# Altium schematic symbol library SparkFun-Sensors.SCHLIB: 134 symbols (part 2 of 2)
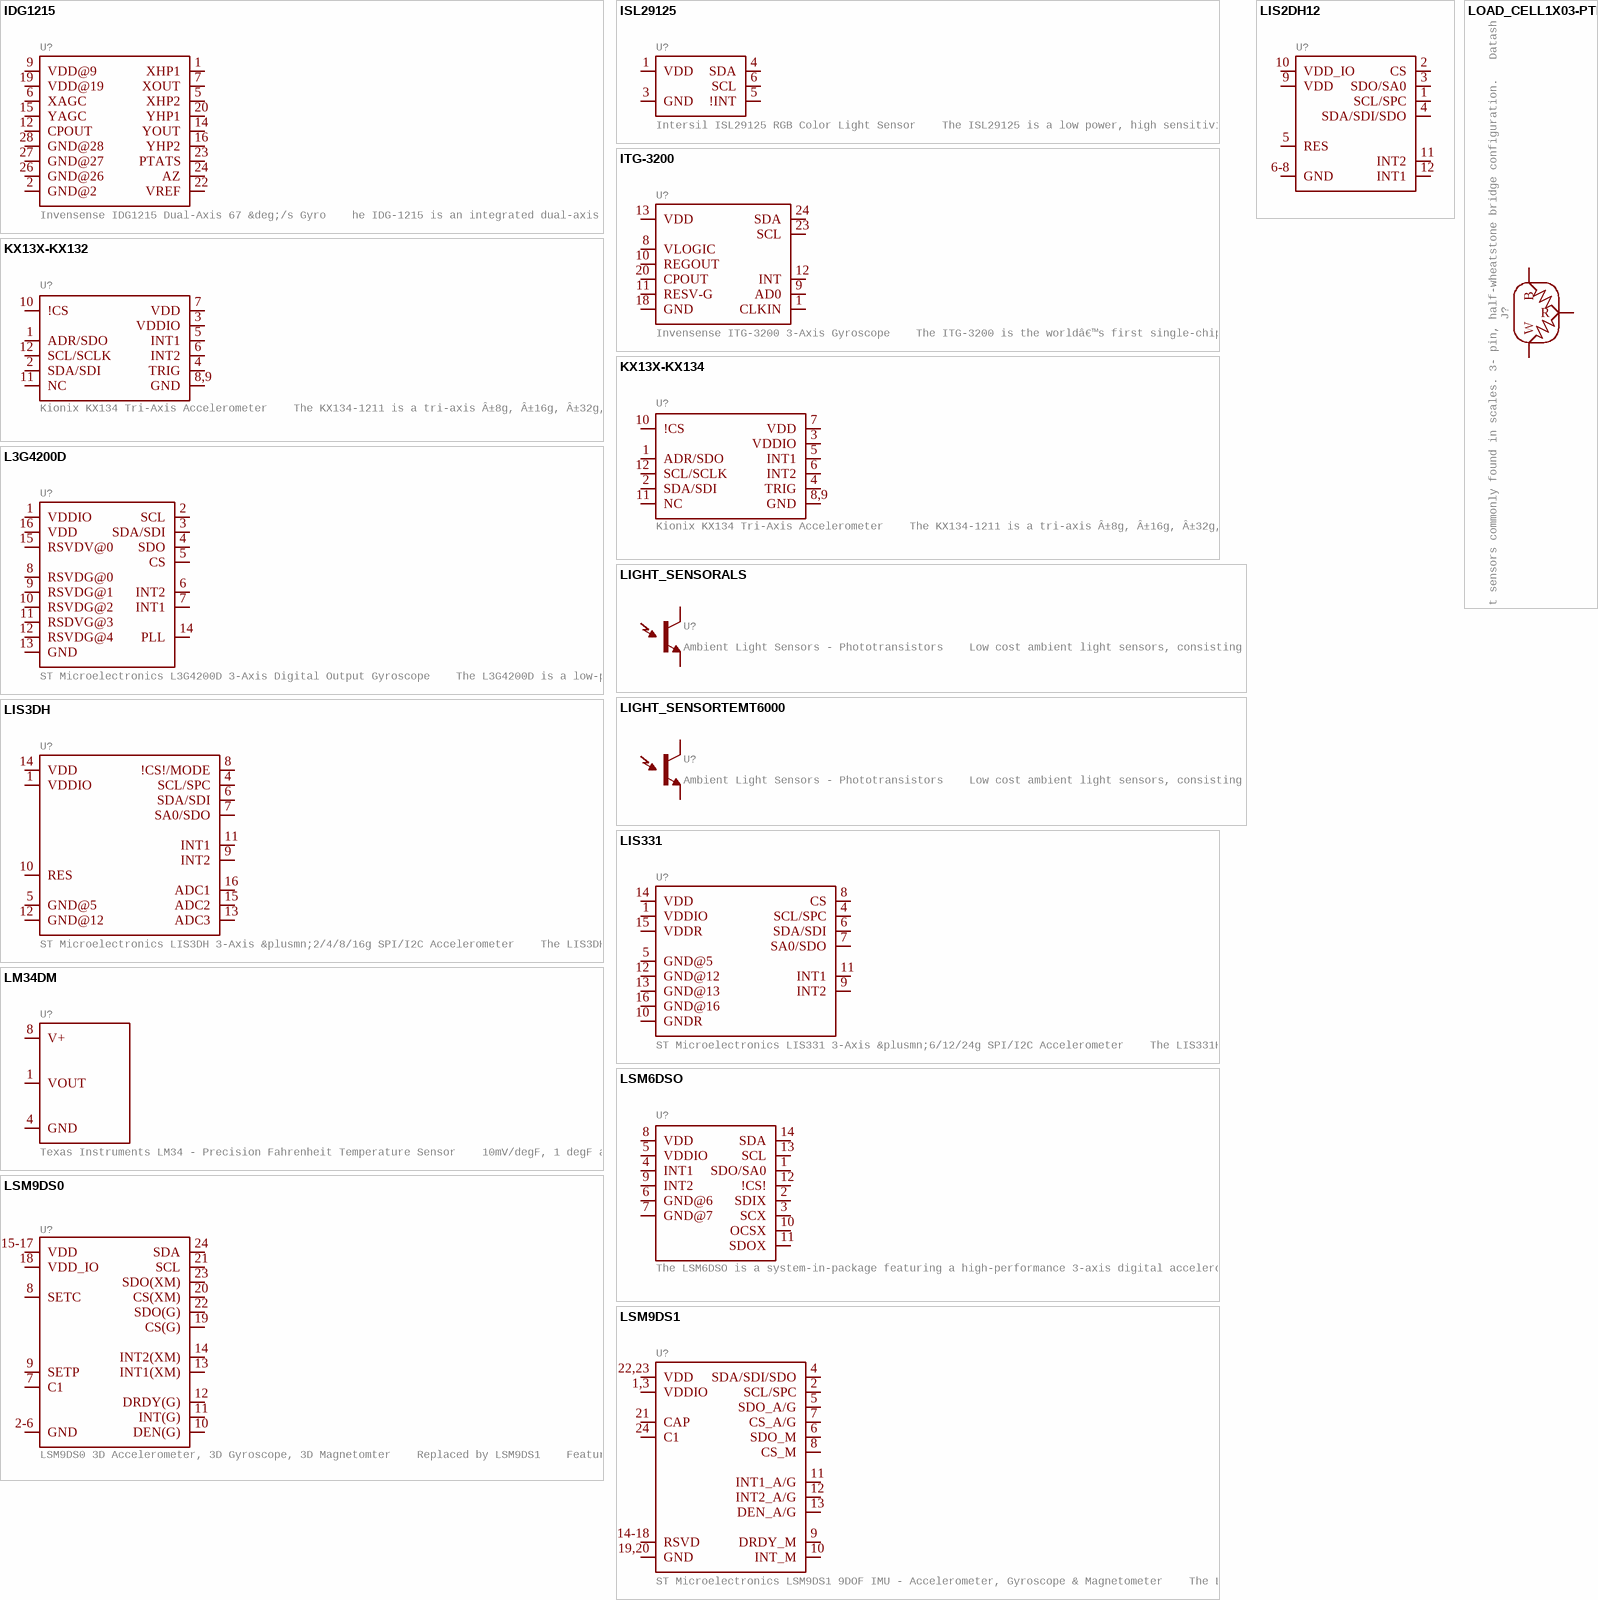
[diagram p8: symbols IDG1215 to LSM9DS1]

## LSM9DS1
designator U?, comment ST Microelectronics LSM9DS1 9DOF IMU - Accelerometer, Gyroscope & Magnetometer    The LSM9DS1 is a versatile, motion-sensing system-in-a-chip. It houses a 3-axis accelerometer, 3-axis gyroscope, and 3-axis magnetometer â€“ nine degrees of freedom (9DOF) in a single IC! The LSM9DS1 is equipped with a digital interface, but even that is flexible: it supports both I2C and SPI, so youâ€™ll be hard-pressed to find a microcontroller it doesnâ€™t work with.   Datasheet SparkFun Products  SparkFun 9 Degrees of Freedom IMU Breakout - LSM9DS1 (SEN-13284)  SparkFun Photon IMU Shield (DEV-13629)
GateName_1: G$1; PROD_ID: IC-12536; SymbolName_1: LSM9DS1; LibraryName: SparkFun-Sensors; DeviceSetName: LSM9DS1; Package: LGA-24-3.5X3
footprint LGA-24-3.5X3
pins: 1,3 VDDIO (io), 2 SCL/SPC (io), 4 SDA/SDI/SDO (io), 5 SDO_A/G (io), 6 SDO_M (io), 7 CS_A/G (io), 8 CS_M (io), 9 DRDY_M (io), 10 INT_M (io), 11 INT1_A/G (io), 12 INT2_A/G (io), 13 DEN_A/G (io), 14-18 RSVD (io), 19,20 GND (io), 21 CAP (io), 22,23 VDD (io), 24 C1 (io)

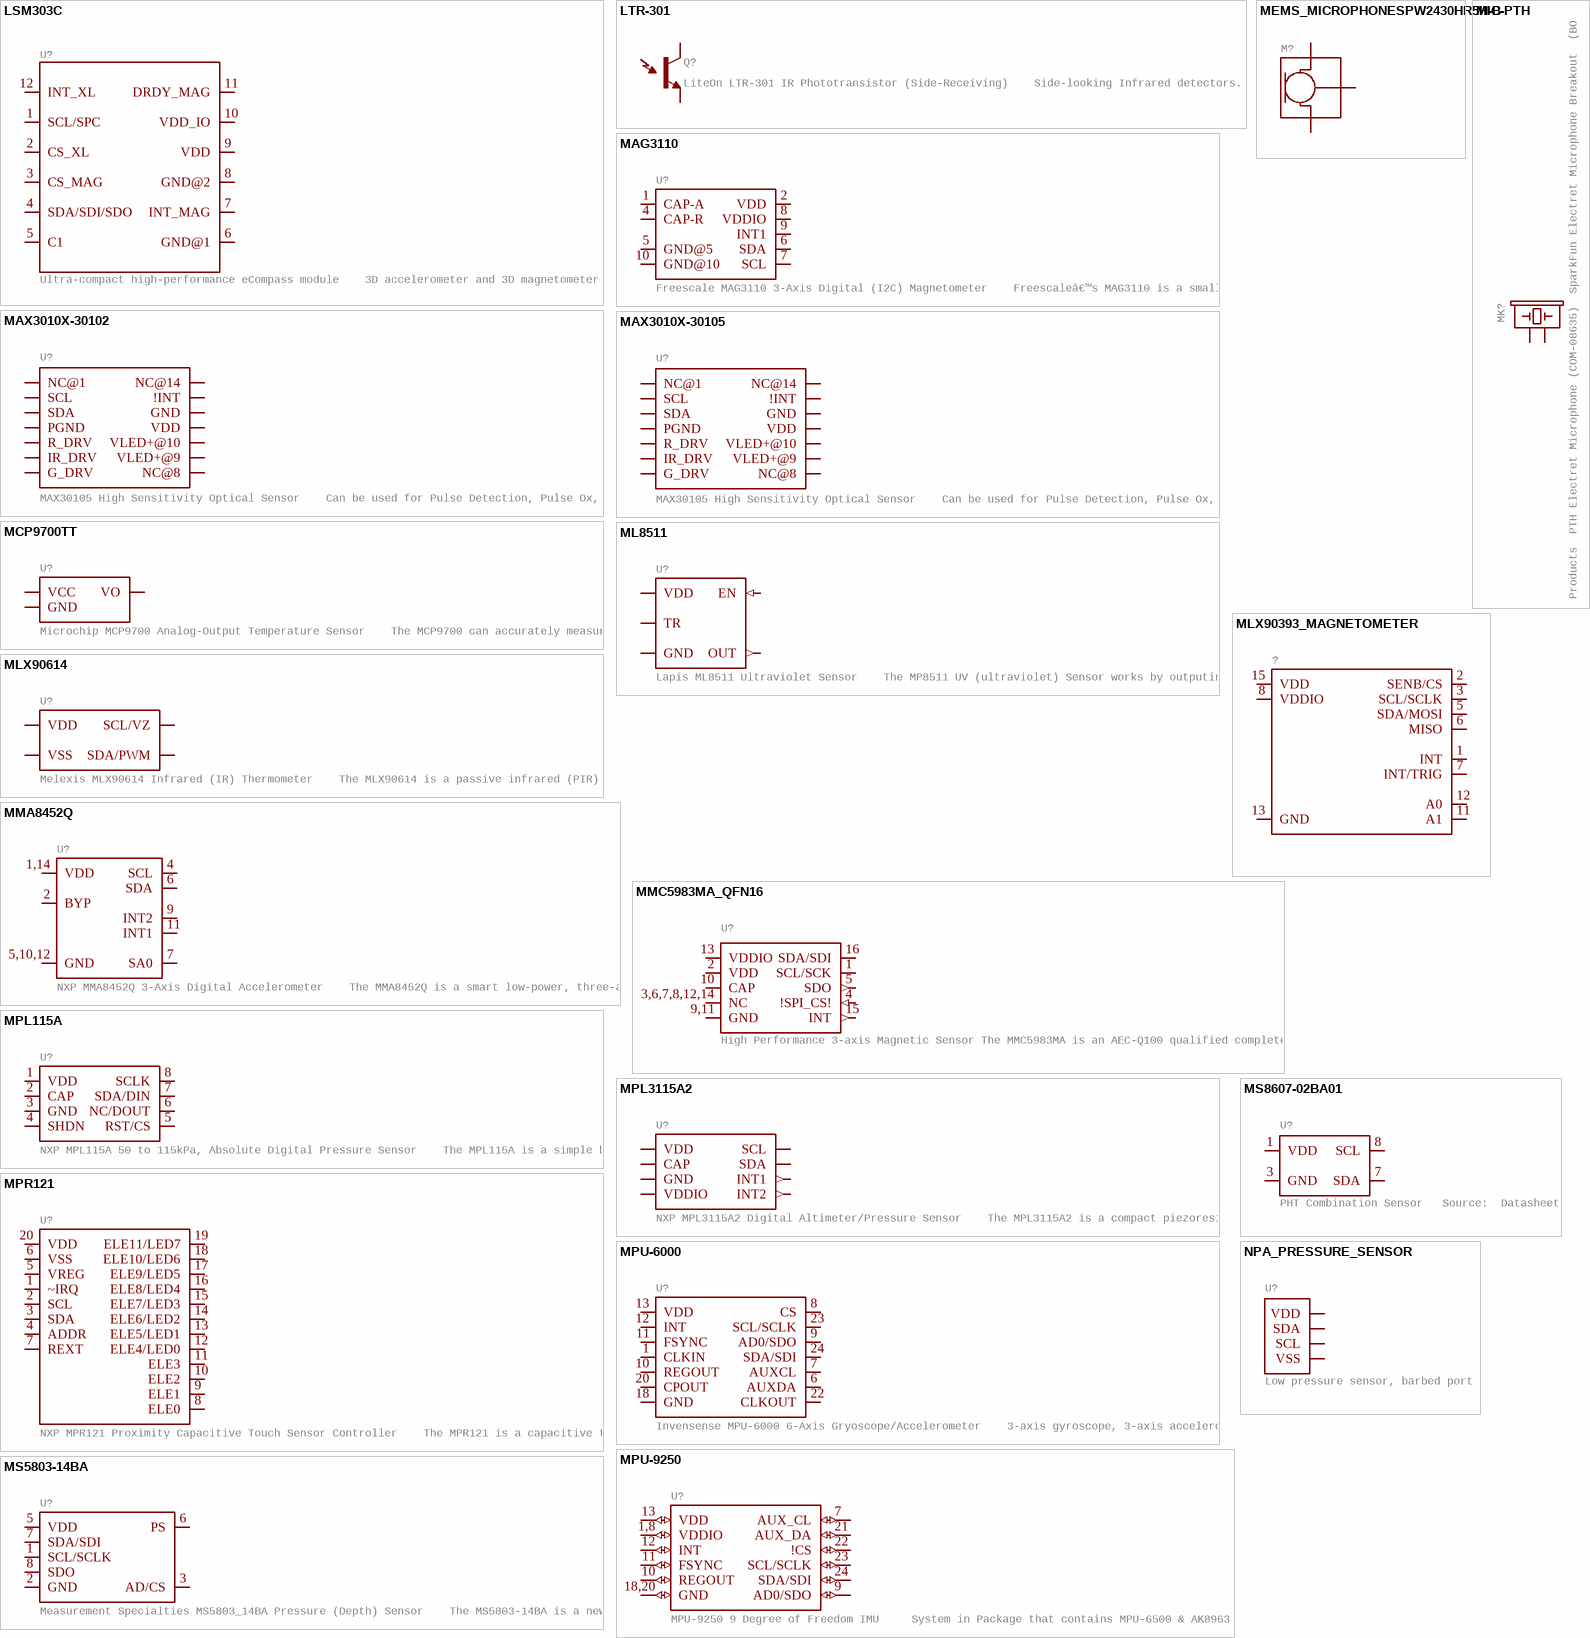
[diagram p4: symbols LSM303C to NPA_PRESSURE_SENSOR]

## LSM303C
designator U?, comment Ultra-compact high-performance eCompass module    3D accelerometer and 3D magnetometer      Datasheet SparkFun Products  SparkFun 6 Degrees of Freedom Breakout - LSM303C (BOB-13303)
GateName_1: G$1; PROD_ID: IC-12557; SymbolName_1: LSM303C; LibraryName: SparkFun-Sensors; DeviceSetName: LSM303C; Package: LGA-12
footprint LGA-12
pins: 1 SCL/SPC (io), 2 CS_XL (io), 3 CS_MAG (io), 4 SDA/SDI/SDO (io), 5 C1 (io), 6 GND@1 (io), 7 INT_MAG (io), 8 GND@2 (io), 9 VDD (io), 10 VDD_IO (io), 11 DRDY_MAG (io), 12 INT_XL (io)

## LTR-301
designator Q?, comment LiteOn LTR-301 IR Phototransistor (Side-Receiving)    Side-looking Infrared detectors. These simple devices operate at 940nm and work well for generic IR systems including remote control and touch-less object sensing. Using a simple ADC on any microcontroller will allow variable readings to be collected from the detector.   Datasheet SparkFun Products  Infrared Emitters and Detectors (SEN-00241)
GateName_1: G$1; SymbolName_1: LIGHTSENSOR; PROD_ID: DIO-10904; LibraryName: SparkFun-Sensors; DeviceSetName: LTR-301; Package: LTR-301; SF_ID: SEN-00241
footprint LTR-301
pins: C C1, E E1

## MAG3110
designator U?, comment Freescale MAG3110 3-Axis Digital (I2C) Magnetometer    Freescaleâ€™s MAG3110 is a small, low-power, digital 3-axis magnetometer. The device can be used in conjunction with a 3-axis accelerometer to produce orientation independent accurate compass heading information. It features a standard I2C serial interface output and smart embedded functions.   Datasheet SparkFun Products  SparkFun Triple Axis Magnetometer Breakout - MAG3110 (SEN-12670)
GateName_1: G$1; PROD_ID: IC-10404; SymbolName_1: MAG3110; LibraryName: SparkFun-Sensors; DeviceSetName: MAG3110; Package: DFN-10
footprint DFN-10
pins: 1 CAP-A (io), 2 VDD (io), 4 CAP-R (io), 5 GND@5 (io), 6 SDA (io), 7 SCL (io), 8 VDDIO (io), 9 INT1 (io), 10 GND@10 (io)

## MAX3010X-30102
designator U?, comment MAX30105 High Sensitivity Optical Sensor    Can be used for Pulse Detection, Pulse Ox, and possible visual particle detection. I2C communication.  Datasheet    SparkFun Products: SparkFun Particle Sensor Breakout - MAX30105
GateName_1: U1; DeviceName: -30102; DeviceSetName: MAX3010X; PROD_ID: IC-14316; SymbolName_1: MAX30105; LibraryName: SparkFun-Sensors; Package: OLGA-14
footprint OLGA-14
pins: 1 NC@1 (io), 2 SCL (io), 3 SDA (io), 4 PGND (io), 5 R_DRV (io), 6 IR_DRV (io), 7 G_DRV (io), 8 NC@8 (io), 9 VLED+@9 (io), 10 VLED+@10 (io), 11 VDD (io), 12 GND (io), 13 !INT (io), 14 NC@14 (io)

## MAX3010X-30105
designator U?, comment MAX30105 High Sensitivity Optical Sensor    Can be used for Pulse Detection, Pulse Ox, and possible visual particle detection. I2C communication.  Datasheet    SparkFun Products: SparkFun Particle Sensor Breakout - MAX30105
GateName_1: U1; DeviceName: -30105; DeviceSetName: MAX3010X; PROD_ID: IC-13510; SymbolName_1: MAX30105; LibraryName: SparkFun-Sensors; Package: OLGA-14
footprint OLGA-14
pins: 1 NC@1 (io), 2 SCL (io), 3 SDA (io), 4 PGND (io), 5 R_DRV (io), 6 IR_DRV (io), 7 G_DRV (io), 8 NC@8 (io), 9 VLED+@9 (io), 10 VLED+@10 (io), 11 VDD (io), 12 GND (io), 13 !INT (io), 14 NC@14 (io)

## MCP9700TT
designator U?, comment Microchip MCP9700 Analog-Output Temperature Sensor    The MCP9700 can accurately measure temperature from -40C to +150C. The output of the MCP9700 is calibrated to a slope of 10mV/Â°C and has a DC offset of 500mV. The offset allows reading negative temperatures without the need for a negative supply.    Datasheet SparkFun Products  LilyPad Temperature Sensor (DEV-08777)  SparkFun Digital Sandbox (DEV-12651)
GateName_1: G$1; DeviceName: TT; PROD_ID: IC-08917; SymbolName_1: MCP9700; LibraryName: SparkFun-Sensors; DeviceSetName: MCP9700; Package: SOT23-3
footprint SOT23-3
pins: 1 VCC (io), 2 VO (io), 3 GND (io)

## MEMS_MICROPHONESPW2430HR5H-B
designator M?
GateName_1: G$1; SymbolName_1: MEMS_MICROPHONE; DeviceName: SPW2430HR5H-B; PROD_ID: COMP-14230; LibraryName: SparkFun-Sensors; DeviceSetName: MEMS_MICROPHONE; Package: SPW2430HR5H-B; DIGIKEY: 423-1394-2-ND
footprint SPW2430HR5H-B
pins: 1 OUT (io), 2,3 GND (io), 4 VDD (io)

## MIC-PTH
designator MK?, comment Microphone    Omni-directional electret microphones - one through-hole, the other SMD.   Datasheet (through-hole mic)   Datasheet (SMD mic) SparkFun Products  PTH Electret Microphone (COM-08635)  SparkFun Electret Microphone Breakout  (BOB-09964)  Digital Sandbox (DEV-12651)  SparkFun Sound Detector (SEN-12642)     SMD Microphone SparkFun Voice Recorder Breakout - ISD1932 (BOB-10653)
GateName_1: >NAME; DeviceName: -PTH; PROD_ID: COMP-08856; SymbolName_1: MIC; LibraryName: SparkFun-Sensors; DeviceSetName: MIC; Package: MICROPHONE-PTH-9.7MM; SF_ID: COM-08635
footprint MICROPHONE-PTH-9.7MM
pins: GND 2, OUT 1

## ML8511
designator U?, comment Lapis ML8511 Ultraviolet Sensor    The MP8511 UV (ultraviolet) Sensor works by outputing an analog signal in relation to the amount of UV light thatâ€™s detected. This sensor detects 280-390nm light most effectively. This is categorized as part of the UVB (burning rays) spectrum and most of the UVA (tanning rays) spectrum. It outputs a analog voltage that is linearly related to the measured UV intensity (mW/cm2).   Datasheet SparkFun Products  SparkFun UV Sensor Breakout - ML8511  (SEN-12705)
GateName_1: U1; PROD_ID: IC-11927; SymbolName_1: ML8511; LibraryName: SparkFun-Sensors; DeviceSetName: ML8511; Package: ML8511
footprint ML8511
pins: 4 EN (in), 5 GND (power), 7 VDD (power), 8 OUT (out), 10 TR (power)

## MLX90393_MAGNETOMETER
designator ?
GateName_1: G$1; SymbolName_1: MLX90393_MAGNETOMETER; PROD_ID: SEN-13886; LibraryName: SparkFun-Sensors; DeviceSetName: MLX90393_MAGNETOMETER; Package: QFN-16_WITH_AXIES
footprint QFN-16_WITH_AXIES
pins: 1 INT (io), 2 SENB/CS (io), 3 SCL/SCLK (io), 5 SDA/MOSI (io), 6 MISO (io), 7 INT/TRIG (io), 8 VDDIO (io), 11 A1 (io), 12 A0 (io), 13 GND (io), 15 VDD (io)

## MLX90614
designator U?, comment Melexis MLX90614 Infrared (IR) Thermometer    The MLX90614 is a passive infrared (PIR) I2C temperature sensor.It is designed for non-contact temperature sensing. An internal 17-bit ADC and a powerful DSP contribute to the MLX90614â€™s high accuracy and resolution. It has a huge number of applications including body temperature measurment and movement detection.   Datasheet SparkFun Products  Infrared Thermometer - MLX90614 (SEN-09570)  SparkFun IR Thermometer Evaluation Board - MLX90614  (SEN-10740)
GateName_1: G$1; PROD_ID: COMP-09719; SymbolName_1: MLX90614; LibraryName: SparkFun-Sensors; DeviceSetName: MLX90614; Package: TO-39; SF_ID: SEN-09570
footprint TO-39
pins: 1 SCL/VZ (io), 2 SDA/PWM (io), 3 VDD (io), 4 VSS (io)

## MMA8452Q
designator U?, comment NXP MMA8452Q 3-Axis Digital Accelerometer    The MMA8452Q is a smart low-power, three-axis, capacitive MEMS accelerometer with 12 bits of resolution. This accelerometer is packed with embedded functions with flexible user programmable options, configurable to two interrupt pins.  Supply Voltage: 1.6-3.6V  Range: +/- 2g, 4g, 8g  Interface: I2C, 12-bit and 8-bit  ODR: 1.56 Hz - 800 Hz  Package: QFN-16       Datasheet SparkFun Products  SparkFun Triple Axis Accelerometer Breakout - MMA8452Q (SEN-12756)  SparkFun RedBot Sensor - Accelerometer (SEN-12589)
GateName_1: U1; PROD_ID: IC-10769; SymbolName_1: MMA8452Q; LibraryName: SparkFun-Sensors; DeviceSetName: MMA8452Q
footprint QFN-16
pins: 1,14 VDD (io), 2 BYP (io), 4 SCL (io), 5,10,12 GND (io), 6 SDA (io), 7 SA0 (io), 9 INT2 (io), 11 INT1 (io)

## MMC5983MA_QFN16
designator U?, comment High Performance 3-axis Magnetic Sensor The MMC5983MA is an AEC-Q100 qualified complete 3-axis magnetic sensor with on-chip signal processing and integrated I2C/SPI bus suitable for use in automotive applications. The device can be connected directly to a microprocessor, eliminating the need for A/D converters or timing resources. It can measure magnetic fields within the full scale range of Â±8 Gauss (G), with 0.25mG/0.0625mG per LSB resolution at 16bits/18bits operation mode and 0.4 mG total RMS noise level, enabling heading accuracy of Â±0.5Â° in electronic compass applications.
GateName_1: G$1; DeviceName: _QFN16; PROD_ID: IC-16314; SymbolName_1: MMC5983MA; LibraryName: SparkFun-Sensors; DeviceSetName: MMC5983MA; Package: LGA-16-3X3MM-4X4PINS
footprint LGA-16-3X3MM-4X4PINS
pins: 1 SCL/SCK (io), 2 VDD (power), 3,6,7,8,12,14 NC, 4 !SPI_CS! (in), 5 SDO (out), 9,11 GND (power), 10 CAP, 13 VDDIO (power), 15 INT (out), 16 SDA/SDI (io)

## MPL115A
designator U?, comment NXP MPL115A 50 to 115kPa, Absolute Digital Pressure Sensor    The MPL115A is a simple barometer with digital output for cost-effective applications. It employs a MEMS pressure sensor with a conditioning integrated circuit to provide accurate pressure data. An integrated analog-to-digital converter (ADC) provides digitized temperature and pressure sensor outputs via either a serial peripheral interface (SPI) (MPL115A1) or IÂ²C (MPL115A2) port.   Datasheet SparkFun Products  SparkFun Barometric Pressure Sensor Breakout - MPL115A1 (SEN-09721)  Barometric Pressure Sensor - MPL115A1 (SEN-09602)
GateName_1: G$1; PROD_ID: IC-09492; SymbolName_1: MPL115A; LibraryName: SparkFun-Sensors; DeviceSetName: MPL115A; Package: LGA-8-5X3; SF_ID: SEN-09602
footprint LGA-8-5X3
pins: 1 VDD (io), 2 CAP (io), 3 GND (io), 4 SHDN (io), 5 RST/CS (io), 6 NC/DOUT (io), 7 SDA/DIN (io), 8 SCLK (io)

## MPL3115A2
designator U?, comment NXP MPL3115A2 Digital Altimeter/Pressure Sensor    The MPL3115A2 is a compact piezoresistive absolute pressure sensor with an I2C interface. MPL3115 has a wide operating range of 20kPa to 110 kPa, a range that covers all surface elevations on Earth. The fully internally compensated MEMS in conjunction with an embedded high resolution 24-bit equivalent ADC provide accurate pressure [Pascals] /altitude [meters] and temperature [degrees Celsius] data.   Datasheet SparkFun Products  SparkFun Altitude/Pressure Sensor Breakout - MPL3115A2 (SEN-11084)  SparkFun Weather Shield (DEV-12081)  SparkFun Photon Weather Shield (DEV-13630)
GateName_1: G$1; PROD_ID: IC-10869; SymbolName_1: MPL3115A2; LibraryName: SparkFun-Sensors; DeviceSetName: MPL3115A2; Package: LGA-8-5X3
footprint LGA-8-5X3
pins: 1 VDD (power), 2 CAP (power), 3 GND (power), 4 VDDIO (power), 5 INT2 (out), 6 INT1 (out), 7 SDA (io), 8 SCL (io)

## MPR121
designator U?, comment NXP MPR121 Proximity Capacitive Touch Sensor Controller    The MPR121 is a capacitive touch sensor controller driven by an I2C interface. The chip can control up to twelve individual electrodes, as well as a simulated thirteenth electrode. The MPR121 also features eight LED driving pins. When these pins are not configured as electrodes, they may be used to drive LEDs.   Datasheet SparkFun Products  Capacitive Touch Sensor Controller - MPR121QR2 (COM-09604)  SparkFun Capacitive Touch Sensor Breakout - MPR121 (SEN-09695)  SparkFun Touch Shield (DEV-12013)  SparkFun Capacitive Touch Keypad - MPR121 (SEN-12017)
GateName_1: G$1; PROD_ID: IC-09490; SymbolName_1: MPR121; LibraryName: SparkFun-Sensors; DeviceSetName: MPR121; Package: QFN-20; SF_ID: COM-09604
footprint QFN-20
pins: 1 ~IRQ (io), 2 SCL (io), 3 SDA (io), 4 ADDR (io), 5 VREG (io), 6 VSS (io), 7 REXT (io), 8 ELE0 (io), 9 ELE1 (io), 10 ELE2 (io), 11 ELE3 (io), 12 ELE4/LED0 (io), 13 ELE5/LED1 (io), 14 ELE6/LED2 (io), 15 ELE7/LED3 (io), 16 ELE8/LED4 (io), 17 ELE9/LED5 (io), 18 ELE10/LED6 (io), 19 ELE11/LED7 (io), 20 VDD (io)

## MPU-6000
designator U?, comment Invensense MPU-6000 6-Axis Gryoscope/Accelerometer    3-axis gyroscope, 3-axis accelerometer in a 4x4 package. The MPU-6000 is the worldâ€™s first 6-axis IÂ²C MotionTracking device designed for the low power, low cost, and high performance requirements of smartphones, tablets and wearable sensors.   Datasheet SparkFun Products  MPU-6000 - Motion Processing Unit (SEN-11234)  SparkFun UDB5 - PIC UAV Development Board (GPS-11703)
GateName_1: G$1; PROD_ID: IC-11089; SymbolName_1: MPU-6000; LibraryName: SparkFun-Sensors; DeviceSetName: MPU-6000; Package: QFN-24-EP; SF_ID: SEN-11234
footprint QFN-24-EP
pins: 1 CLKIN (io), 6 AUXDA (io), 7 AUXCL (io), 8 CS (io), 9 AD0/SDO (io), 10 REGOUT (io), 11 FSYNC (io), 12 INT (io), 13 VDD (io), 18 GND (io), 20 CPOUT (io), 22 CLKOUT (io), 23 SCL/SCLK (io), 24 SDA/SDI (io)

## MPU-9250
designator U?, comment MPU-9250 9 Degree of Freedom IMU     System in Package that contains MPU-6500 & AK8963  NC pin 19. 2-6 & 14-17 not internally connected. May be used for PCB trace routing.  Datasheet   SparkFun Products: SparkFun 9DoF Razor IMU M0  SparkFun IMU Breakout - MPU-9250
GateName_1: G$1; PROD_ID: IC-13192; SymbolName_1: MPU-9250; LibraryName: SparkFun-Sensors; DeviceSetName: MPU-9250; Package: QFN24-3X3
footprint QFN24-3X3
pins: 1,8 VDDIO (io), 7 AUX_CL (io), 9 AD0/SDO (io), 10 REGOUT (io), 11 FSYNC (io), 12 INT (io), 13 VDD (io), 18,20 GND (io), 21 AUX_DA (io), 22 !CS (io), 23 SCL/SCLK (io), 24 SDA/SDI (io)

## MS5803-14BA
designator U?, comment Measurement Specialties MS5803_14BA Pressure (Depth) Sensor    The MS5803-14BA is a new generation of high resolution pressure sensors with SPI and I2C bus interface. It is optimized for depth measurement systems with a water depth resolution of 1cm and below. The sensor module includes a high linear pressure sensor and an ultra low power 24 bit Î”Î£ ADC with internal factory calibrated coefficients. It provides a precise digital 24 Bit pressure and temperature value and different operation modes that allow the user to optimize for conversion speed and current consumption.   Datasheet SparkFun Products  SparkFun Pressure Sensor Breakout - MS5803-14BA (SEN-12909)
GateName_1: G$1; SymbolName_1: MS5803; PROD_ID: IC-12111; LibraryName: SparkFun-Sensors; DeviceSetName: MS5803-14BA; Package: MS5803
footprint MS5803
pins: 1 SCL/SCLK (io), 2 GND (io), 3 AD/CS (io), 5 VDD (io), 6 PS (io), 7 SDA/SDI (io), 8 SDO (io)

## MS8607-02BA01
designator U?, comment PHT Combination Sensor   Source:  Datasheet
GateName_1: U1; SymbolName_1: MS8607-02BA01; PROD_ID: IC-15048; LibraryName: SparkFun-Sensors; DeviceSetName: MS8607-02BA01; Package: MS8607-02BA01
footprint MS8607-02BA01
pins: 1 VDD (power), 3 GND (power), 7 SDA (io), 8 SCL (io)

## NPA_PRESSURE_SENSOR
designator U?, comment Low pressure sensor, barbed port
GateName_1: G$1; SymbolName_1: NPA_PRESSURE_SENSOR; LibraryName: SparkFun-Sensors; DeviceSetName: NPA_PRESSURE_SENSOR; Package: SO14W
footprint SO14W
pins: 6 VSS (power), 7 VDD (power), 8 SDA (io), 9 SCL (io)

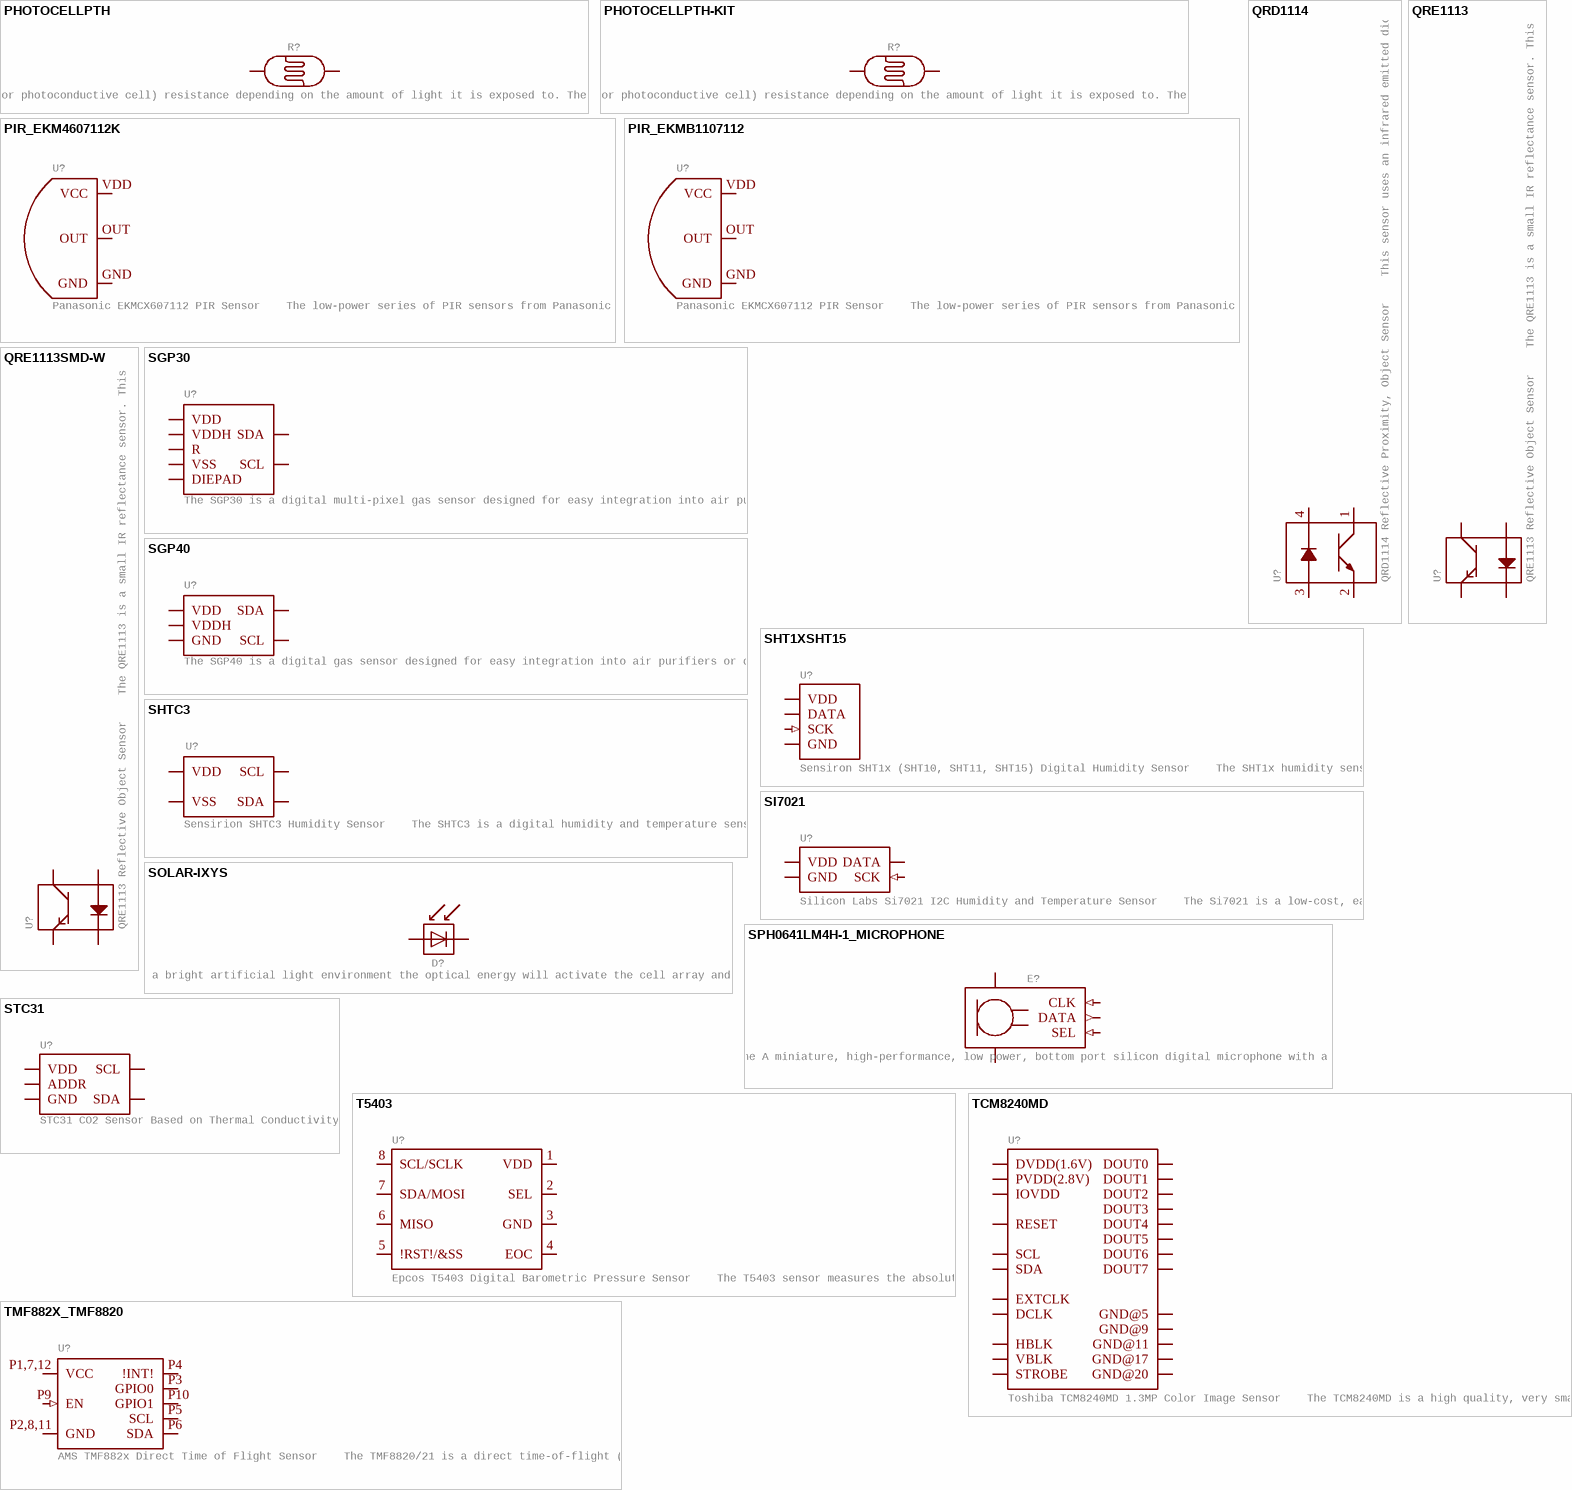
[diagram p5: symbols PHOTOCELLPTH to TMF882X_TMF8820]

## PHOTOCELLPTH
designator R?, comment Photocell (Photodetector, Photo Resistor, CdS)    This is a very small light sensor. A photocell changes (also called a photodetector, photo resistor, CdS or photoconductive cell) resistance depending on the amount of light it is exposed to. These little sensors make great ambient light triggers (when light in the room turns on, do something).   Datasheet SparkFun Products  Mini Photocell (SEN-09088)
GateName_1: G$1; DeviceName: PTH; PROD_ID: COMP-09129; SymbolName_1: PHOTOCELL; LibraryName: SparkFun-Sensors; DeviceSetName: PHOTOCELL; Package: PHOTOCELL; SF_ID: SEN-09088
footprint PHOTOCELL
pins: 1 P$1 (io), 2 P$2 (io)

## PHOTOCELLPTH-KIT
designator R?, comment Photocell (Photodetector, Photo Resistor, CdS)    This is a very small light sensor. A photocell changes (also called a photodetector, photo resistor, CdS or photoconductive cell) resistance depending on the amount of light it is exposed to. These little sensors make great ambient light triggers (when light in the room turns on, do something).   Datasheet SparkFun Products  Mini Photocell (SEN-09088)
GateName_1: G$1; DeviceName: PTH-KIT; PROD_ID: COMP-09129; SymbolName_1: PHOTOCELL; LibraryName: SparkFun-Sensors; DeviceSetName: PHOTOCELL; Package: PHOTOCELL-KIT; SF_ID: SEN-09088
footprint PHOTOCELL-KIT
pins: 1 P$1 (io), 2 P$2 (io)

## PIR_EKM4607112K
designator U?, comment Panasonic EKMCX607112 PIR Sensor    The low-power series of PIR sensors from Panasonic come in a 170 uA (4607) and 1 uA (1607) version.
GateName_1: G$1; DeviceName: 4607112K; DeviceSetName: PIR_EKM; PROD_ID: IC-15368; SymbolName_1: PIR; LibraryName: SparkFun-Sensors; Package: TO-3
footprint TO-3
pins: GND (io), OUT (io), VDD VCC (io)

## PIR_EKMB1107112
designator U?, comment Panasonic EKMCX607112 PIR Sensor    The low-power series of PIR sensors from Panasonic come in a 170 uA (4607) and 1 uA (1607) version.
GateName_1: G$1; DeviceName: B1107112; DeviceSetName: PIR_EKM; PROD_ID: IC-15370; SymbolName_1: PIR; LibraryName: SparkFun-Sensors; Package: TO-3
footprint TO-3
pins: GND (io), OUT (io), VDD VCC (io)

## QRD1114
designator U?, comment QRD1114 Reflective Proximity, Object Sensor    This sensor uses an infrared emitted diode combined with an infrared phototransistor to detect the reflected infrared signal. Ideal for sensing black-to-white transitions or can be used to detect nearby objects (.5-1cm).   Datasheet SparkFun Products  Optical Detector / Phototransistor - QRD1114 (SEN-00246)
GateName_1: G$1; PROD_ID: IC-09032; SymbolName_1: QRD1114; LibraryName: SparkFun-Sensors; DeviceSetName: QRD1114; Package: QRD1114; SF_ID: SEN-00246
footprint QRD1114
pins: 1 C (io), 2 E (io), 3 A (io), 4 K (io)

## QRE1113
designator U?, comment QRE1113 Reflective Object Sensor    The QRE1113 is a small IR reflectance sensor. This sensor is often used in line following robots because, if it can sense if a surface is white or black.   There are four pins on the QRE1113 - two control the IR emitting LED while the other two are the collector and emitter of a phototransistor. The IR diode has a max forward current of 50mA and operates at 940nm.   Datasheet SparkFun Products  IR Reflectance Sensor - QRE1113 (COM-09542)  SparkFun Line Sensor Breakout - QRE1113 (Analog) (ROB-09453)  SparkFun Line Sensor Breakout - QRE1113 (Digital) (ROB-09454)  SparkFun RedBot Sensor - Line Follower (SEN-11769)  SparkFun RedBot Sensor - Wheel Encoder (SEN-12617)  SparkFun Line Follower Array (SEN-13582)
GateName_1: >NAME; PROD_ID: IC-09357; SymbolName_1: QRE1113; LibraryName: SparkFun-Sensors; DeviceSetName: QRE1113; Package: QRE1113; SF_ID: COM-09542
footprint QRE1113
pins: 1 A (io), 2 K (io), 3 C (io), 4 E (io)

## QRE1113SMD-W
designator U?, comment QRE1113 Reflective Object Sensor    The QRE1113 is a small IR reflectance sensor. This sensor is often used in line following robots because, if it can sense if a surface is white or black.   There are four pins on the QRE1113 - two control the IR emitting LED while the other two are the collector and emitter of a phototransistor. The IR diode has a max forward current of 50mA and operates at 940nm.   Datasheet SparkFun Products  IR Reflectance Sensor - QRE1113 (COM-09542)  SparkFun Line Sensor Breakout - QRE1113 (Analog) (ROB-09453)  SparkFun Line Sensor Breakout - QRE1113 (Digital) (ROB-09454)  SparkFun RedBot Sensor - Line Follower (SEN-11769)  SparkFun RedBot Sensor - Wheel Encoder (SEN-12617)  SparkFun Line Follower Array (SEN-13582)
GateName_1: >NAME; DeviceName: SMD-W; PROD_ID: IC-09357; SymbolName_1: QRE1113; LibraryName: SparkFun-Sensors; DeviceSetName: QRE1113; Package: QRE1113-W; SF_ID: COM-09542
footprint QRE1113-W
pins: 1 A (io), 2 K (io), 3 C (io), 4 E (io)

## SGP30
designator U?, comment The SGP30 is a digital multi-pixel gas sensor designed for easy integration into air purifier, demand-controlled ventilation, and IoT applications.
GateName_1: G$1; PROD_ID: IC-14776; SymbolName_1: SGP30; LibraryName: SparkFun-Sensors; DeviceSetName: SGP30; Package: SGP30
footprint SGP30
pins: 1 VDD (io), 2 VSS (io), 3 SDA (io), 4 R (io), 5 VDDH (io), 6 SCL (io), DIEPAD (io)

## SGP40
designator U?, comment The SGP40 is a digital gas sensor designed for easy integration into air purifiers or demand-controlled ventilation systems.
GateName_1: G$1; PROD_ID: IC-15580; SymbolName_1: SGP40; LibraryName: SparkFun-Sensors; DeviceSetName: SGP40; Package: SGP40; DIGIKEY_PART: 1649-SGP40-D-R4CT-ND
footprint SGP40
pins: 1 VDD (power), 2,4,DIEPAD GND (power), 3 SDA (io), 5 VDDH (power), 6 SCL (io)

## SHT1XSHT15
designator U?, comment Sensiron SHT1x (SHT10, SHT11, SHT15) Digital Humidity Sensor    The SHT1x humidity sensor series (including SHT10, SHT11, and SHT15) is Sensirionâ€™s family of surface-mountable relative humidity sensors. The humidity sensors integrate sensor elements plus signal processing on a tiny footprint and provide a fully calibrated digital output. A unique capacitive sensor element is used for measuring relative humidity, while temperature is measured by a band-gap sensor.   Datasheet SparkFun Products  Humidity and Temperature Sensor - SHT15 (COM-08227)  SparkFun Humidity and Temperature Sensor Breakout - SHT15 (SEN-13683)
GateName_1: G$1; PROD_ID: IC-08303; SymbolName_1: SHT1X; DeviceName: SHT15; LibraryName: SparkFun-Sensors; DeviceSetName: SHT1X; Package: SHT1X; SF_ID: COM-08227
footprint SHT1X
pins: 1 GND (power), 2 DATA (io), 3 SCK (in), 4 VDD (power)

## SHTC3
designator U?, comment Sensirion SHTC3 Humidity Sensor    The SHTC3 is a digital humidity and temperature sensor designed especially for battery-driven high-volume consumer electronics applications.
GateName_1: G$1; PROD_ID: IC-14840; SymbolName_1: SHTC3; LibraryName: SparkFun-Sensors; DeviceSetName: SHTC3; Package: SHTC3
footprint SHTC3
pins: 1 VDD (io), 2 SCL (io), 3 SDA (io), 4,5 VSS (io)

## SI7021
designator U?, comment Silicon Labs Si7021 I2C Humidity and Temperature Sensor    The Si7021 is a low-cost, easy-to-use, highly accurate, digital humidity and temperature sensor. This sensor is ideal for environmental sensing and data logging and perfect for build a weather stations or humidor control system. All you need are two lines for I2C communication, and youâ€™ll have relative humidity readings and very accurate temperature readings as a bonus!   Datasheet SparkFun Products  SparkFun Humidity and Temperature Sensor Breakout - Si7021 (SEN-13763)  SparkFun Blynk Board - ESP8266 (WRL-13794)
GateName_1: G$1; PROD_ID: IC-13093; SymbolName_1: SI7021; LibraryName: SparkFun-Sensors; DeviceSetName: SI7021; Package: DFN-6-3X3-SI7021
footprint DFN-6-3X3-SI7021
pins: DATA (io), GND (power), SCK (in), VDD (power)

## SOLAR-IXYS
designator D?, comment IXYS CPC1822 4V Output Solar Cell    The CPC1822 is a monolithic photovoltaic string of solar cells with switching circuitry. When operating in sunlight or a bright artificial light environment the optical energy will activate the cell array and generate a voltage at the output. The solar cells are capable of generating a floating source voltage and current sufficient to drive and power CMOS ICs, logic gates and/or provide â€œtrickle chargeâ€ for battery applications.   Datasheet SparkFun Products  Miniature Solar Cell - CPC1822 (PRT-09962)
GateName_1: G$1; SymbolName_1: SOLARCELL_SINGLE; DeviceSetName: SOLAR-IXYS; LibraryName: SparkFun-Sensors; Package: SOIC-8; SF_ID: PRT-09962
footprint SOIC-8
pins: 5 C, 8 A

## SPH0641LM4H-1_MICROPHONE
designator E?, comment SPH0641LM4H-1 Microphone A miniature, high-performance, low power, bottom port silicon digital microphone with a single bit PDM output.
GateName_1: E1; SymbolName_1: SPH0641LM4H-1_MICROPHONE; PROD_ID: IC-14361; LibraryName: SparkFun-Sensors; DeviceSetName: SPH0641LM4H-1_MICROPHONE; Package: SPH0641LM4H-1_MICROPHONE
footprint SPH0641LM4H-1_MICROPHONE
pins: 1 DATA (out), 2 SEL (in), 3,6,7,8 GND (power), 4 CLK (in), 5 VDD (power)

## STC31
designator U?, comment STC31 CO2 Sensor Based on Thermal Conductivity
MANU_PART: STC31-R3; GateName_1: G$1; PROD_ID: IC-16076; SymbolName_1: STC31; LibraryName: SparkFun-Sensors; DeviceSetName: STC31; Package: STC31
footprint STC31
pins: 1,5,9,11,DIEPAD GND (power), 3 ADDR (io), 4 SCL (io), 6 VDD (power), 7 SDA (io)

## T5403
designator U?, comment Epcos T5403 Digital Barometric Pressure Sensor    The T5403 sensor measures the absolute pressure of the air around. This pressure varies with both the weather and altitude. Depending on how you interpret the data, you can monitor changes in the weather, measure altitude, or any other tasks that require an accurate pressure reading.   Datasheet SparkFun Products  SparkFun Barometric Sensor Breakout - T5403 (SEN-12039)
GateName_1: U$1; PROD_ID: IC-11772; SymbolName_1: T5403; LibraryName: SparkFun-Sensors; DeviceSetName: T5403; Package: T5403
footprint T5403
pins: 1 VDD (io), 2 SEL (io), 3 GND (io), 4 EOC (io), 5 !RST!/&SS (io), 6 MISO (io), 7 SDA/MOSI (io), 8 SCL/SCLK (io)

## TCM8240MD
designator U?, comment Toshiba TCM8240MD 1.3MP Color Image Sensor    The TCM8240MD is a high quality, very small 1.3 mega-pixel color camera from Toshiba with the standard data+I2C interface. The nice thing is that we have a good supplier of these cameras, so they should be around for some time. This camera is also unique in that it offers on-board JPEG compression.   Datasheet SparkFun Products  CMOS Camera - 1300x1040 (SEN-08668)  TCM8240 Camera Breakout (BOB-09504)
GateName_1: G$1; PROD_ID: COMP-09354; SymbolName_1: TCM8240MD; LibraryName: SparkFun-Sensors; DeviceSetName: TCM8240MD; Package: TCM8240MD; SF_ID: SEN-08668
footprint TCM8240MD
pins: P$1 DOUT3 (io), P$2 DOUT2 (io), P$3 DOUT1 (io), P$4 DOUT0 (io), P$5 GND@5 (io), P$6 PVDD(2.8V) (io), P$7 RESET (io), P$8 SCL (io), P$9 GND@9 (io), P$10 SDA (io), P$11 GND@11 (io), P$12 DVDD(1.6V) (io), P$13 EXTCLK (io), P$14 STROBE (io), P$15 HBLK (io), P$16 VBLK (io), P$17 GND@17 (io), P$18 IOVDD (io), P$19 DCLK (io), P$20 GND@20 (io), P$21 DOUT7 (io), P$22 DOUT6 (io), P$23 DOUT5 (io), P$24 DOUT4 (io)

## TMF882X_TMF8820
designator U?, comment AMS TMF882x Direct Time of Flight Sensor    The TMF8820/21 is a direct time-of-flight (dToF) sensor in a single modular package with associated VCSEL. The dToF device is based on SPAD, TDC and histogram technology and achieves 5000 mm detection range. Due to its lens on the SPAD, it supports 3x3, 4x4, and 3x6 multizone output data and a very wide, dynamically adjustable, field of view. A multi-lens-array (MLA) inside the package above the VCSEL widens up the FoI (field of illumination). All processing of the raw data is performed on-chip and the TMF8820/21 provide distance information together with confidence values on its I2C interface.   Datasheet   Hookup Guide
GateName_1: G$1; DeviceName: _TMF8820; PROD_ID: IC-16432; SymbolName_1: TMF882X; LibraryName: SparkFun-Sensors; DeviceSetName: TMF882X; Package: TMF882X
footprint TMF882X
pins: P1,7,12 VCC (power), P2,8,11 GND (power), P3 GPIO0 (io), P4 !INT! (io), P5 SCL (io), P6 SDA (io), P9 EN (in), P10 GPIO1 (io)

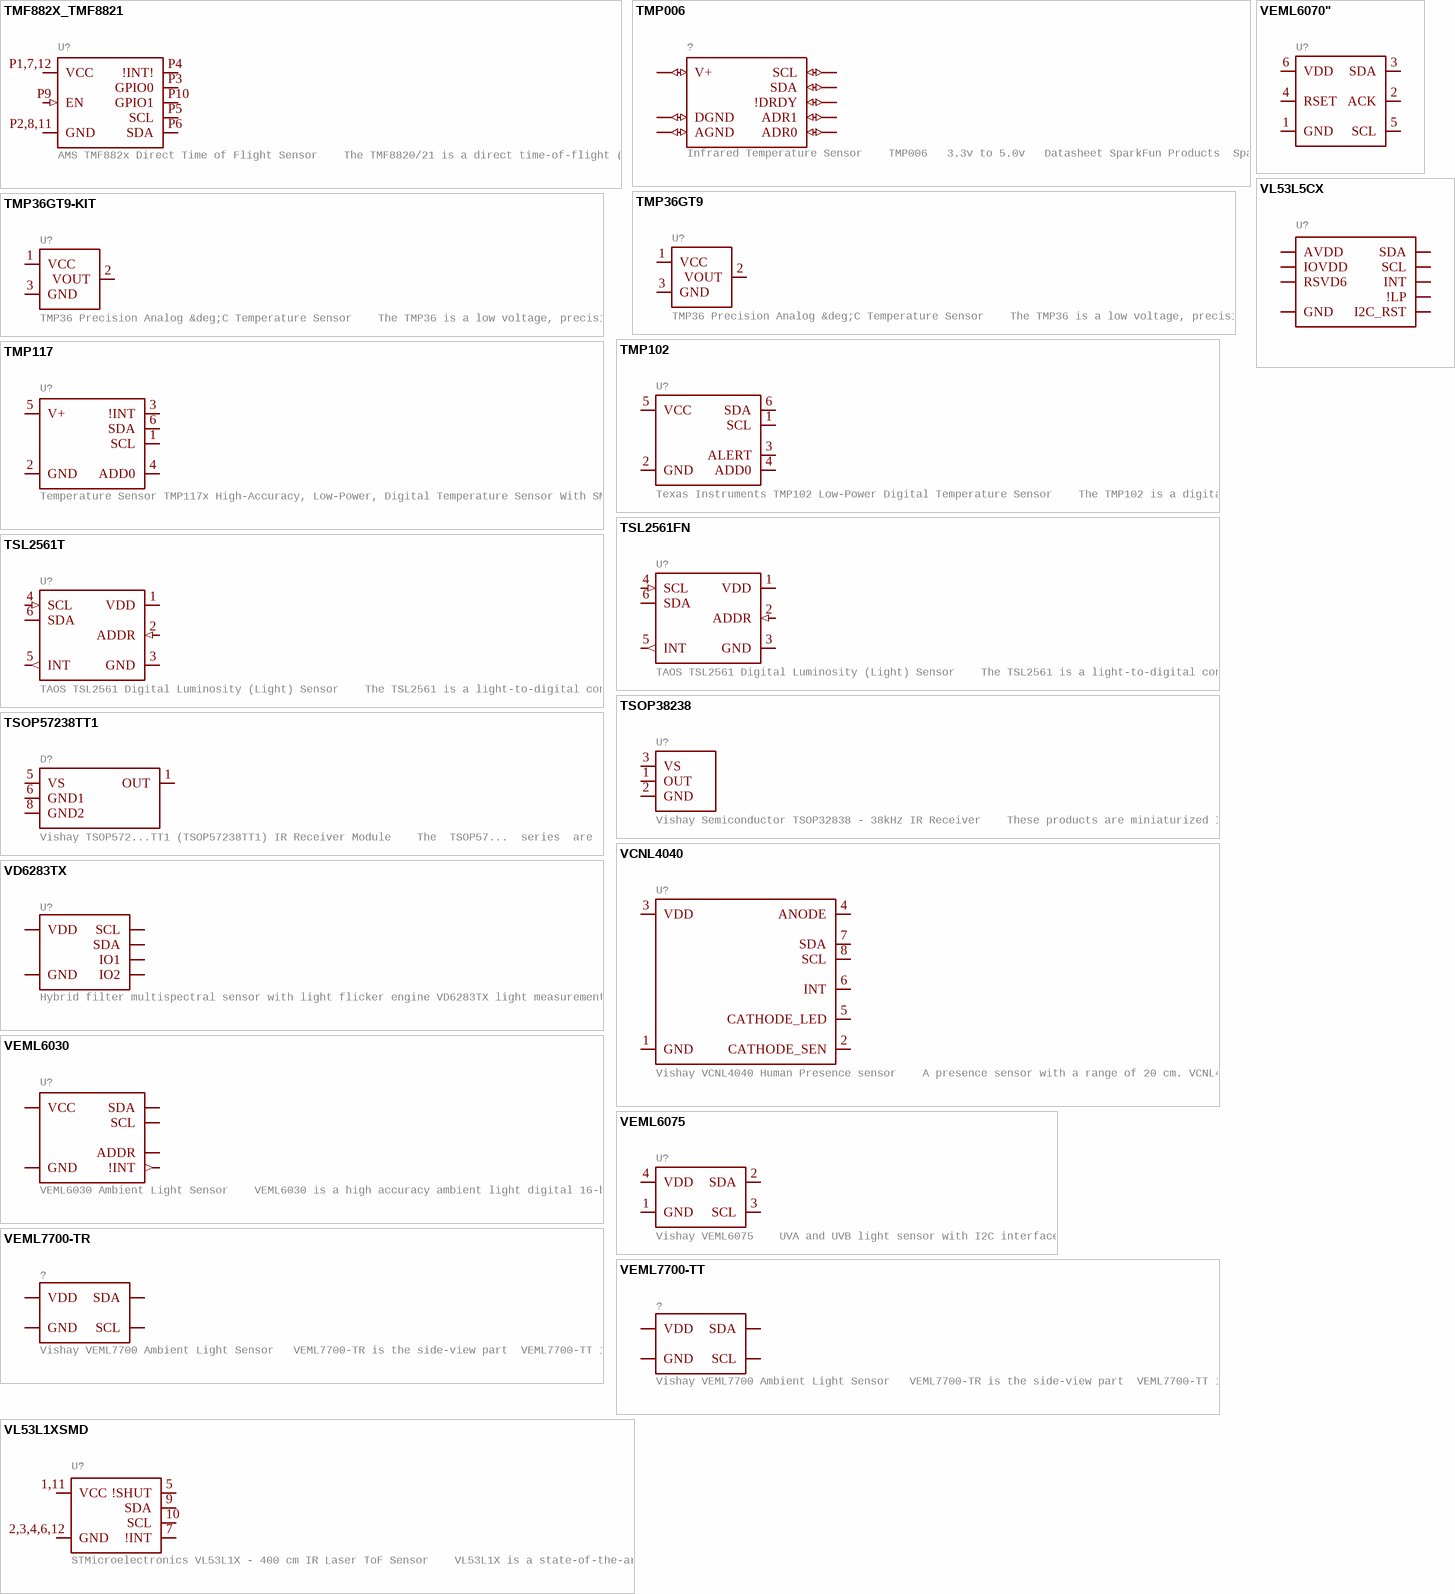
[diagram p6: symbols TMF882X_TMF8821 to VL53L5CX]

## TMF882X_TMF8821
designator U?, comment AMS TMF882x Direct Time of Flight Sensor    The TMF8820/21 is a direct time-of-flight (dToF) sensor in a single modular package with associated VCSEL. The dToF device is based on SPAD, TDC and histogram technology and achieves 5000 mm detection range. Due to its lens on the SPAD, it supports 3x3, 4x4, and 3x6 multizone output data and a very wide, dynamically adjustable, field of view. A multi-lens-array (MLA) inside the package above the VCSEL widens up the FoI (field of illumination). All processing of the raw data is performed on-chip and the TMF8820/21 provide distance information together with confidence values on its I2C interface.   Datasheet   Hookup Guide
GateName_1: G$1; DeviceName: _TMF8821; PROD_ID: IC-16433; SymbolName_1: TMF882X; LibraryName: SparkFun-Sensors; DeviceSetName: TMF882X; Package: TMF882X
footprint TMF882X
pins: P1,7,12 VCC (power), P2,8,11 GND (power), P3 GPIO0 (io), P4 !INT! (io), P5 SCL (io), P6 SDA (io), P9 EN (in), P10 GPIO1 (io)

## TMP006
designator ?, comment Infrared Temperature Sensor    TMP006   3.3v to 5.0v   Datasheet SparkFun Products  SparkFun Infrared Temperature Breakout - TMP006 (SEN-11859)
GateName_1: G$1; PROD_ID: IC-11632; SymbolName_1: TMP006; LibraryName: SparkFun-Sensors; DeviceSetName: TMP006; Package: BGA8DS
footprint BGA8DS
pins: A1 DGND (io), A2 AGND (io), A3 V+ (io), B1 ADR1 (io), B3 SCL (io), C1 ADR0 (io), C2 !DRDY (io), C3 SDA (io)

## TMP36GT9
designator U?, comment TMP36 Precision Analog &deg;C Temperature Sensor    The TMP36 is a low voltage, precision centigrade temperature sensor. It provides a voltage output that is linearly proportional to the Celsius temperature. It also doesnâ€™t require any external calibration to provide typical accuracies of Â±1Â°C at +25Â°C and Â±2Â°C over the âˆ’40Â°C to +125Â°C temperature range. We like it because itâ€™s so easy to use: Just give the device a ground and 2.7 to 5.5 VDC and read the voltage on the Vout pin. The output voltage can be converted to temperature easily using the scale factor of 10 mV/Â°C.   Datasheet SparkFun Products  Temperature Sensor - TMP36 (SEN-10988)  SparkFun Danger Shield (DEV-11649)
GateName_1: G$1; DeviceName: GT9; PROD_ID: IC-09880; SymbolName_1: TMP36; LibraryName: SparkFun-Sensors; DeviceSetName: TMP36; Package: TO-92; SF_ID: SEN-10988
footprint TO-92
pins: 1 VCC (io), 2 VOUT (io), 3 GND (io)

## TMP36GT9-KIT
designator U?, comment TMP36 Precision Analog &deg;C Temperature Sensor    The TMP36 is a low voltage, precision centigrade temperature sensor. It provides a voltage output that is linearly proportional to the Celsius temperature. It also doesnâ€™t require any external calibration to provide typical accuracies of Â±1Â°C at +25Â°C and Â±2Â°C over the âˆ’40Â°C to +125Â°C temperature range. We like it because itâ€™s so easy to use: Just give the device a ground and 2.7 to 5.5 VDC and read the voltage on the Vout pin. The output voltage can be converted to temperature easily using the scale factor of 10 mV/Â°C.   Datasheet SparkFun Products  Temperature Sensor - TMP36 (SEN-10988)  SparkFun Danger Shield (DEV-11649)
GateName_1: G$1; DeviceName: GT9-KIT; PROD_ID: IC-09880; SymbolName_1: TMP36; LibraryName: SparkFun-Sensors; DeviceSetName: TMP36; Package: TO-92-KIT; SF_ID: SEN-10988
footprint TO-92-KIT
pins: 1 VCC (io), 2 VOUT (io), 3 GND (io)

## TMP102
designator U?, comment Texas Instruments TMP102 Low-Power Digital Temperature Sensor    The TMP102 is a digital sensor (I2C a.k.a. TWI), has a resolution of 0.0625Â°C, and is accurate up to 0.5Â°C. This is a very handy sensor that requires a very low-current.   Datasheet SparkFun Products  SparkFun Digital Temperature Sensor Breakout - TMP102 (SEN-11931)
GateName_1: G$1; PROD_ID: IC-09303; SymbolName_1: TMP102; LibraryName: SparkFun-Sensors; DeviceSetName: TMP102; Package: SOT563
footprint SOT563
pins: 1 SCL (io), 2 GND (io), 3 ALERT (io), 4 ADD0 (io), 5 VCC (io), 6 SDA (io)

## TMP117
designator U?, comment Temperature Sensor TMP117x High-Accuracy, Low-Power, Digital Temperature Sensor With SMBusâ„¢- and I2C-Compatible Interface
GateName_1: G$1; SymbolName_1: TMP117; PROD_ID: IC-14700; LibraryName: SparkFun-Sensors; DeviceSetName: TMP117; Package: TMP117
footprint TMP117
pins: 1 SCL (io), 2 GND (io), 3 !INT (io), 4 ADD0 (io), 5 V+ (power), 6 SDA (io)

## TSL2561FN
designator U?, comment TAOS TSL2561 Digital Luminosity (Light) Sensor    The TSL2561 is a light-to-digital converter that transform light intensity to a digital signal output via I2C interface. The device combines one broadband photodiode (visible plus infrared) and one infrared-responding photodiode on a single CMOS integrated circuit capable of providing a near-photopic response over an effective 20-bit dynamic range (16-bit resolution). Two integrating ADCs convert the photodiode currents to a digital output that represents the irradiance measured on each channel. This digital output can be input to a microprocessor where illuminance (ambient light level) in lux is derived using an empirical formula to approximate the human eye response. The TSL2561 device supports a traditional level style interrupt that remains asserted until the firmware clears it.   Datasheet SparkFun Products  SparkFun Luminosity Sensor Breakout - TSL2561 (SEN-12055)
GateName_1: G$1; DeviceName: FN; PROD_ID: IC-11791; SymbolName_1: TSL2561; LibraryName: SparkFun-Sensors; DeviceSetName: TSL2561; Package: DFN-6-2X2
footprint DFN-6-2X2
pins: 1 VDD (power), 2 ADDR (in), 3 GND (power), 4 SCL (in), 5 INT (out), 6 SDA (io)

## TSL2561T
designator U?, comment TAOS TSL2561 Digital Luminosity (Light) Sensor    The TSL2561 is a light-to-digital converter that transform light intensity to a digital signal output via I2C interface. The device combines one broadband photodiode (visible plus infrared) and one infrared-responding photodiode on a single CMOS integrated circuit capable of providing a near-photopic response over an effective 20-bit dynamic range (16-bit resolution). Two integrating ADCs convert the photodiode currents to a digital output that represents the irradiance measured on each channel. This digital output can be input to a microprocessor where illuminance (ambient light level) in lux is derived using an empirical formula to approximate the human eye response. The TSL2561 device supports a traditional level style interrupt that remains asserted until the firmware clears it.   Datasheet SparkFun Products  SparkFun Luminosity Sensor Breakout - TSL2561 (SEN-12055)
GateName_1: G$1; DeviceName: T; SymbolName_1: TSL2561; LibraryName: SparkFun-Sensors; DeviceSetName: TSL2561; Package: TMB-6
footprint TMB-6
pins: 1 VDD (power), 2 ADDR (in), 3 GND (power), 4 SCL (in), 5 INT (out), 6 SDA (io)

## TSOP38238
designator U?, comment Vishay Semiconductor TSOP32838 - 38kHz IR Receiver    These products are miniaturized IR receiver modules for infrared remote control systems. A PIN diode and a preamplifier are assembled on a leadframe, the epoxy package contains an IR filter. The demodulated output signal can be directly connected to a microprocessor for decoding.
GateName_1: G$1; SymbolName_1: TSOP382; DeviceName: 38; PROD_ID: SEN-10266; LibraryName: SparkFun-Sensors; DeviceSetName: TSOP382; Package: TSOP382
footprint TSOP382
pins: 1 OUT (io), 2 GND (io), 3 VS (io)

## TSOP57238TT1
designator D?, comment Vishay TSOP572...TT1 (TSOP57238TT1) IR Receiver Module    The  TSOP57...  series  are  miniaturized  SMD  IR  receiver  modules  for  infrared  remote  control  systems.  A  PIN  diode  and  a  preamplifier  are  assembled  on  a  PCB,  the  epoxy  package contains an IR filter. The demodulated output signal can be directly connected to a microprocessor for decoding.   Datasheet SparkFun Products   Not currently in a SparkFun Assembly
GateName_1: G$1; PROD_ID: COMP-11990; SymbolName_1: TSOP57238TT1; LibraryName: SparkFun-Sensors; DeviceSetName: TSOP57238TT1; Package: TSOP572
footprint TSOP572
pins: 1 OUT (io), 5 VS (io), 6 GND1 (io), 8 GND2 (io)

## VCNL4040
designator U?, comment Vishay VCNL4040 Human Presence sensor    A presence sensor with a range of 20 cm. VCNL4040 integrates a proximity sensor (PS), ambient light sensor (ALS), and a high power IRED into one small package.
GateName_1: U1; SymbolName_1: SPARKX_VCNL4040; PROD_ID: IC-14227; LibraryName: SparkFun-Sensors; DeviceSetName: VCNL4040; Package: SPARKX_VCNL4040
footprint SPARKX_VCNL4040
pins: 1 GND (io), 2 CATHODE_SEN (io), 3 VDD (io), 4 ANODE (io), 5 CATHODE_LED (io), 6 INT (io), 7 SDA (io), 8 SCL (io)

## VD6283TX
designator U?, comment Hybrid filter multispectral sensor with light flicker engine VD6283TX light measurement is fast and accurate thanks to an individual ADC and a readout for each color channel. It employs hybrid color filters with precise responses allowing accurate computation of the correlated color temperature (CCT) and Lux information. The VD6283TX can be used for display brightness management or scene light correction and can extract light flickering frequencies to avoid â€œbanding effectsâ€ on videos, or check that they are safe for human eye. Additionally, the VD6283TX is the only sensor able to extract different light flicker waveforms from 100 Hz and 2 kHz, including LED square signals, that can run flicker operations simultaneously with ALS operations.
GateName_1: G$1; PROD_ID: IC-16459; SymbolName_1: VD6283TX; LibraryName: SparkFun-Sensors; DeviceSetName: VD6283TX; Package: VD6283TX
footprint VD6283TX
pins: A1 VDD (power), A2 SDA (io), A3 GND (power), B1 IO2 (io), B2 IO1 (io), B3 SCL (io)

## VEML6030
designator U?, comment VEML6030 Ambient Light Sensor    VEML6030 is a high accuracy ambient light digital 16-bit resolution sensor in a miniature transparent 2 mm x 2 mm package. It includes a high sensitive photodiode, a low noise amplifier, a 16-bit A/D converter and supports an easy to use I2C bus communication interface and additional interrupt feature.
GateName_1: U1; PROD_ID: IC-14447; SymbolName_1: VEML6030; LibraryName: SparkFun-Sensors; DeviceSetName: VEML6030; Package: VEML6030
footprint VEML6030
pins: 1 GND (power), 2 SDA (io), 3 !INT (out), 4 ADDR (io), 5 SCL (io), 6 VCC (power)

## VEML6070"
designator U?
GateName_1: G$1; SymbolName_1: VEML6070; DeviceName: "; PROD_ID: SEN-14367; LibraryName: SparkFun-Sensors; DeviceSetName: VEML6070; Package: VEML6070
footprint VEML6070
pins: 1 GND (io), 2 ACK (io), 3 SDA (io), 4 RSET (io), 5 SCL (io), 6 VDD (io)

## VEML6075
designator U?, comment Vishay VEML6075    UVA and UVB light sensor with I2C interface.
GateName_1: G$1; PROD_ID: IC-14149; SymbolName_1: VEML6075; LibraryName: SparkFun-Sensors; DeviceSetName: VEML6075; Package: VEML6075_A3OP
footprint VEML6075_A3OP
pins: 1 GND (io), 2 SDA (io), 3 SCL (io), 4 VDD (io)

## VEML7700-TR
designator ?, comment Vishay VEML7700 Ambient Light Sensor   VEML7700-TR is the side-view part  VEML7700-TT is the top-view part
GateName_1: U1; DeviceName: -TR; SymbolName_1: VEML7700; LibraryName: SparkFun-Sensors; DeviceSetName: VEML7700; Package: VEML7700_TR
footprint VEML7700_TR
pins: 1 SCL (io), 2 VDD (power), 3 GND (power), 4 SDA (io)

## VEML7700-TT
designator ?, comment Vishay VEML7700 Ambient Light Sensor   VEML7700-TR is the side-view part  VEML7700-TT is the top-view part
GateName_1: U1; DeviceName: -TT; PROD_ID: IC-16311; SymbolName_1: VEML7700; LibraryName: SparkFun-Sensors; DeviceSetName: VEML7700; Package: VEML7700_TT
footprint VEML7700_TT
pins: 1 SCL (io), 2 VDD (power), 3 GND (power), 4 SDA (io)

## VL53L1XSMD
designator U?, comment STMicroelectronics VL53L1X - 400 cm IR Laser ToF Sensor    VL53L1X is a state-of-the-art ToF laser-ranging sensor, enhancing the ST FlightSense product family. It is the fastest miniature ToF sensor currently on the market with accurate ranging up to 4 m and fast ranging frequency (up to 50 Hz). Housed in a miniature and reflowable package, it integrates a single photon avalanche diode (SPAD) receiving array, a 940 nm invisible laser Class 1 emitter, physical infrared filters, and optics to achieve the best ranging performance in various ambient lighting conditions with a range of cover window options.
GateName_1: U1; DeviceName: SMD; PROD_ID: IC-13960; SymbolName_1: VL53L1X; LibraryName: SparkFun-Sensors; DeviceSetName: VL53L1X; Package: VL53L1X
footprint VL53L1X
pins: 1,11 VCC (io), 2,3,4,6,12 GND (io), 5 !SHUT (io), 7 !INT (io), 9 SDA (io), 10 SCL (io)

## VL53L5CX
designator U?
GateName_1: U1; SymbolName_1: VL53L5CX; PROD_ID: IC-16254; LibraryName: SparkFun-Sensors; DeviceSetName: VL53L5CX; Package: VL53L5CX
footprint VL53L5CX
pins: A1 I2C_RST (io), A2,A6,A7,B4,C1,C6,C7 GND (io), A3 INT (io), A4 IOVDD (io), A5 !LP (io), B1,7 AVDD (io), C2 RSVD6 (io), C3 SDA (io), C4 SCL (io)

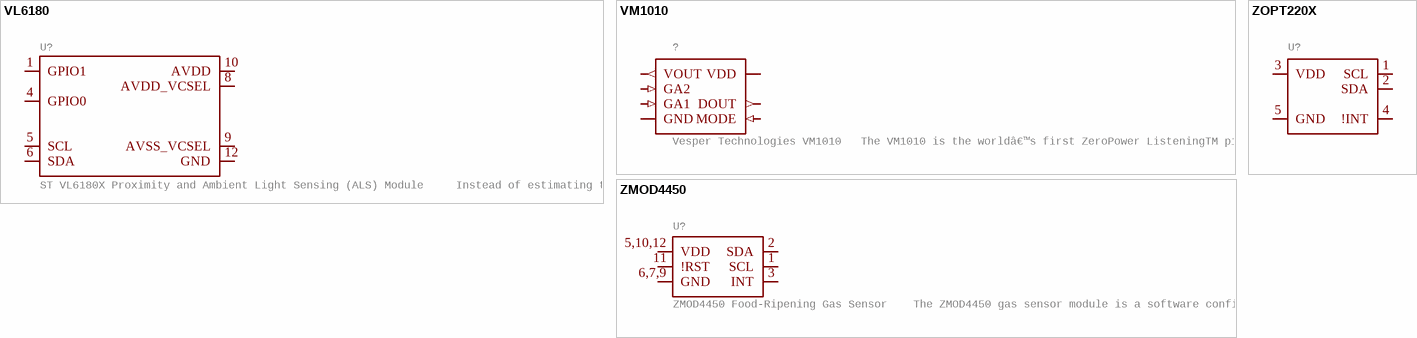
[diagram p7: symbols VL6180 to ZOPT220X]

## VL6180
designator U?, comment ST VL6180X Proximity and Ambient Light Sensing (ALS) Module     Instead of estimating the distance by measuring the amount of light reflected back from the object (which is significantly influenced by color and surface), the VL6180 precisely measures the time the light takes to travel to the nearest object and reflect back to the sensor (Time-of-Flight). Combining an IR emitter, a range sensor and an ambient light sensor in a three-in-one ready-to-use reflowable package, the VL6180 is easy to integrate and saves the end-product makers the long and costly optical and mechanical design optimizations.   Datasheet SparkFun Products  SparkFun ToF Range Finder Breakout - VL6180 (SEN-12784)  SparkFun ToF Range Finder Sensor - VL6180 (SEN-12785)
GateName_1: G$1; PROD_ID: IC-12007; SymbolName_1: VL6180; LibraryName: SparkFun-Sensors; DeviceSetName: VL6180; Package: VL6180
footprint VL6180
pins: 1 GPIO1 (io), 4 GPIO0 (io), 5 SCL (io), 6 SDA (io), 8 AVDD_VCSEL (io), 9 AVSS_VCSEL (io), 10 AVDD (io), 12 GND (io)

## VM1010
designator ?, comment Vesper Technologies VM1010   The VM1010 is the worldâ€™s first ZeroPower ListeningTM piezoelectric MEMS microphone. It provides an ultra-low power always listening solution with a Wake on Sound mode that allows detection of voice activity.
MANU_PART: VM1010AA; GateName_1: G$1; PROD_ID: IC-15768; SymbolName_1: VM1010; LibraryName: SparkFun-Sensors; DeviceSetName: VM1010; Package: VM1010; DIGIKEY_PART: 2022-1001-1-ND
footprint VM1010
pins: 1 VOUT (out), 2 GA2 (in), 3 GA1 (in), 4,8 GND (power), 5 MODE (in), 6 VDD (power), 7 DOUT (out)

## ZMOD4450
designator U?, comment ZMOD4450 Food-Ripening Gas Sensor    The ZMOD4450 gas sensor module is a software configurable platform designed for detecting gases associated with food ripening or rotting and is targeted for use in refrigeration air quality (RAQ) applications. The sensor is a 12-pin LGA assembly (3.0 x 3.0 x 0.7 mm) that consists of a gas sense element and a CMOS signal conditioning IC. The moduleâ€™s sense element consists of a micro-heater and sensing material integrated on a silicon-based MEMS structure. It measures the metal oxide (MOx) conductivity, which is a function of the gas concentration.    SparkFun Products:  SparkFun Refrigeration Gas Sensor ZMOD4450 (Qwiic)
GateName_1: G$1; PROD_ID: IC-15106; SymbolName_1: ZMOD4450; LibraryName: SparkFun-Sensors; DeviceSetName: ZMOD4450; Package: LGA-12-3X3
footprint LGA-12-3X3
pins: 1 SCL (io), 2 SDA (io), 3 INT (io), 5,10,12 VDD (io), 6,7,9 GND (io), 11 !RST (io)

## ZOPT220X
designator U?
GateName_1: U1; SymbolName_1: ZOPT220X; PROD_ID: IC-13876; LibraryName: SparkFun-Sensors; DeviceSetName: ZOPT220X; Package: LGA6
footprint LGA6
pins: 1 SCL (io), 2 SDA (io), 3 VDD (io), 4 !INT (io), 5 GND (io)